# Altium integrated library AMP Memory Module SIMM II.IntLib: 10 symbols
Pins are listed as number, name and electrical type; pins without a type are passive.

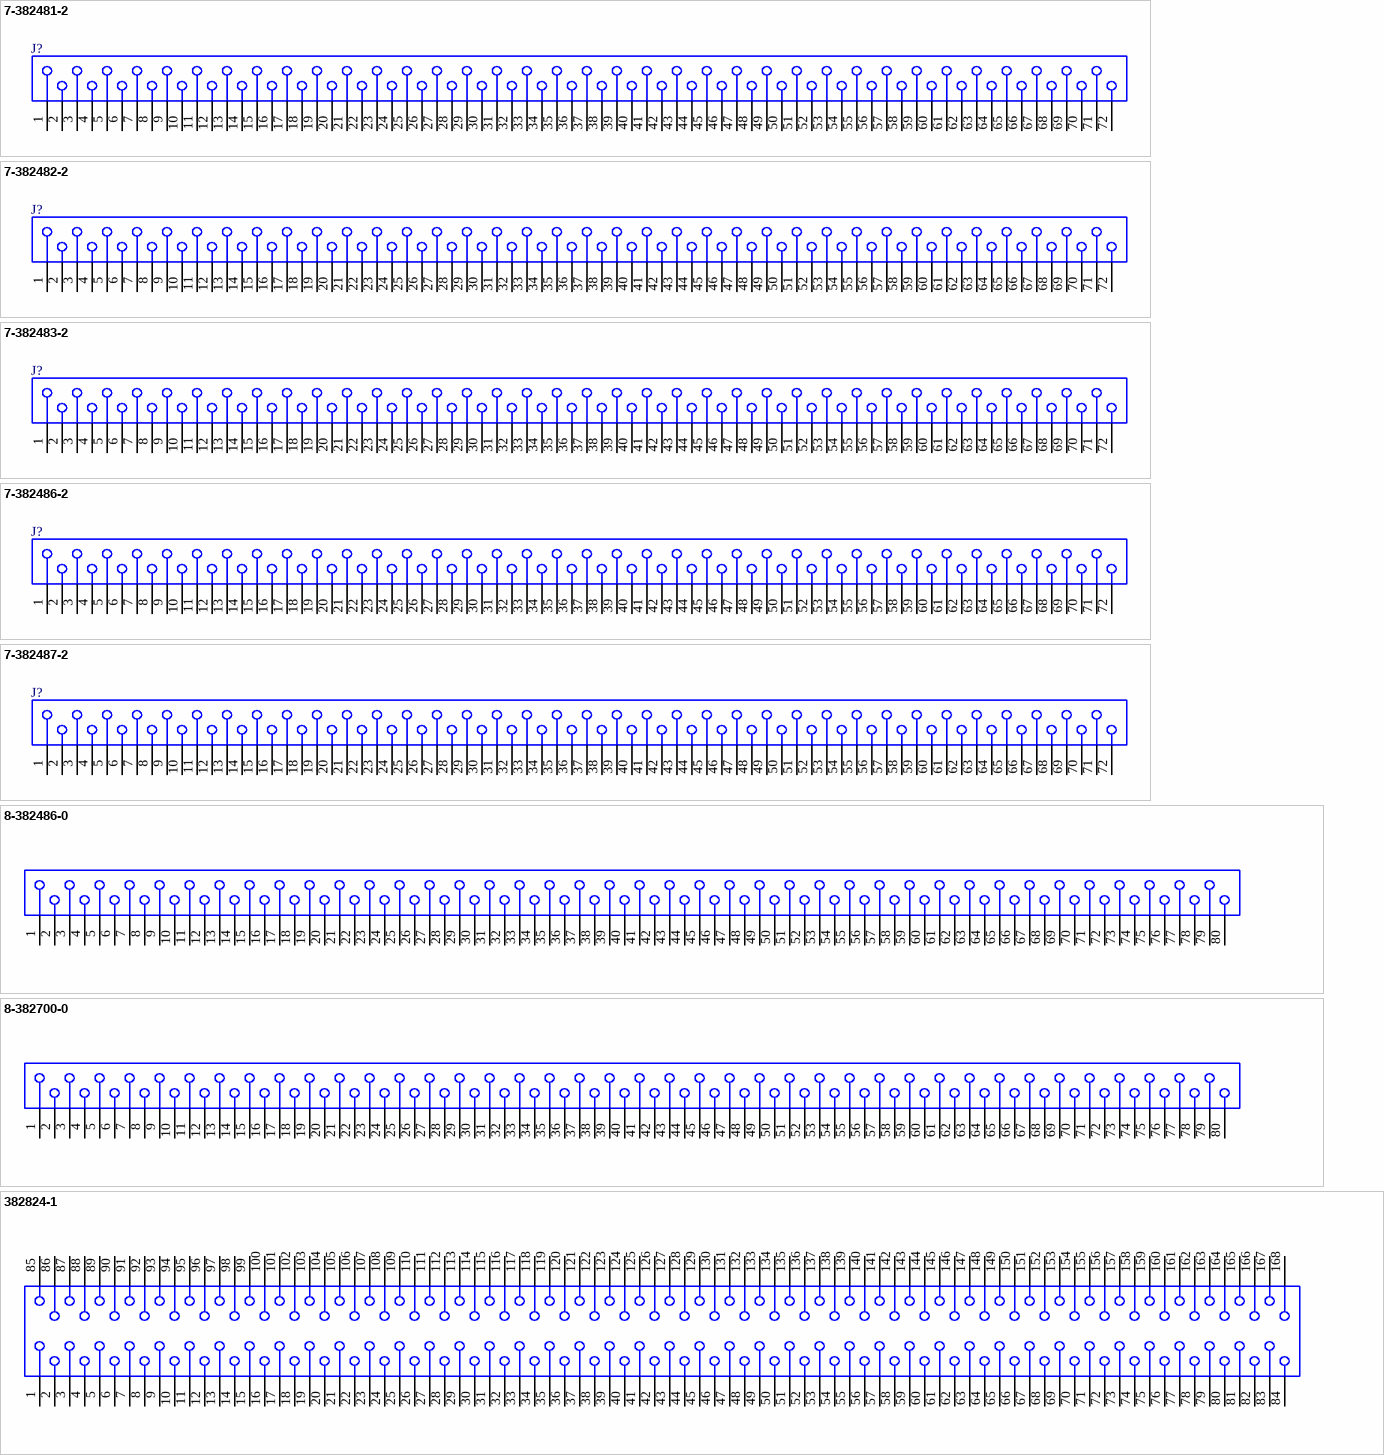
[diagram p0: symbols 7-382481-2 to 382824-1]

## 7-382481-2
designator J?
SIMM II, Right Angle, 1.27 [.050] @22 Assembly, 3.18 [.125] Height; Positions: 72; Rows: Single; InsertionStyle: Cam-In; EjectorLocation: None; PCB_Layout: Complies with manufacturer's recommendation.; DrillSize: Corresponds to nominal value.; Published: 15-Jun-2001; LatestRevisionDate: 17-Jul-2002; LatestRevisionNote: Re-released for DXP Platform.; DatasheetDocument: 25-Jul-2000; PackageDocument: 25-Jul-2000; PackageReference: 7-382481-2; Publisher: Altium Limited; Orientation: Right Angle; ComponentLink1Description: Manufacturer Link; ComponentLink1URL: http://www.tycoelectronics.com/; ComponentLink2Description: Packaging Specification; ComponentLink2URL: http://ecommas.tycoelectronics.com/commerce/DocumentDelivery/DDEController?Action=showdoc&DocId=Customer+Drawing%7F382481%7FG%7Fpdf%7FEnglish%7FENG_CD_382481_G.pdf
footprint 7-382481-2 (Connector; SIMM II; 72 Position; Right Angle)
signal-integrity model Memory Module
pins: 1, 2, 3, 4, 5, 6, 7, 8, 9, 10, 11, 12, 13, 14, 15, 16, 17, 18, 19, 20, 21, 22, 23, 24, 25, 26, 27, 28, 29, 30, 31, 32, 33, 34, 35, 36, 37, 38, 39, 40, 41, 42, 43, 44, 45, 46, 47, 48, 49, 50, 51, 52, 53, 54, 55, 56, 57, 58, 59, 60, 61, 62, 63, 64, 65, 66, 67, 68, 69, 70, 71, 72

## 7-382482-2
designator J?
SIMM II, Right Angle, 1.27 [.050] Q Assembly 4.064 [.160] Height; Positions: 72; Rows: Single; InsertionStyle: Cam-In; EjectorLocation: None; PCB_Layout: Complies with manufacturer's recommendation.; DrillSize: Corresponds to nominal value.; Published: 15-Jun-2001; LatestRevisionDate: 17-Jul-2002; LatestRevisionNote: Re-released for DXP Platform.; DatasheetDocument: 18-Jul-2000; PackageDocument: 18-Jul-2000; PackageReference: 7-382482-2; Publisher: Altium Limited; Orientation: Right Angle; ComponentLink1Description: Manufacturer Link; ComponentLink1URL: http://www.tycoelectronics.com/; ComponentLink2Description: Packaging Specification; ComponentLink2URL: http://ecommas.tycoelectronics.com/commerce/DocumentDelivery/DDEController?Action=showdoc&DocId=Customer+Drawing%7F382482%7FH%7Fpdf%7FEnglish%7FENG_CD_382482_H.pdf; ComponentLink3Description: Iges Model; ComponentLink3URL: http://catalog.tycoelectronics.com/TE/docs/cadgeo/0/79/31970.tar.gz
footprint 7-382482-2 (Connector; SIMM II; 72 Position; Right Angle)
signal-integrity model Memory Module
pins: 1, 2, 3, 4, 5, 6, 7, 8, 9, 10, 11, 12, 13, 14, 15, 16, 17, 18, 19, 20, 21, 22, 23, 24, 25, 26, 27, 28, 29, 30, 31, 32, 33, 34, 35, 36, 37, 38, 39, 40, 41, 42, 43, 44, 45, 46, 47, 48, 49, 50, 51, 52, 53, 54, 55, 56, 57, 58, 59, 60, 61, 62, 63, 64, 65, 66, 67, 68, 69, 70, 71, 72

## 7-382483-2
designator J?
SIMM II, Right Angle, 1.27 [.050] Q Assembly 4.064 [.160] Height; Positions: 72; Rows: Single; InsertionStyle: Cam-In; EjectorLocation: None; PCB_Layout: Complies with manufacturer's recommendation.; DrillSize: Corresponds to nominal value.; Published: 15-Jun-2001; LatestRevisionDate: 17-Jul-2002; LatestRevisionNote: Re-released for DXP Platform.; DatasheetDocument: 18-Jul-2000; PackageDocument: 18-Jul-2000; PackageReference: 7-382483-2; Publisher: Altium Limited; Orientation: Right Angle; ComponentLink1Description: Manufacturer Link; ComponentLink1URL: http://www.tycoelectronics.com/; ComponentLink2Description: Packaging Specification; ComponentLink2URL: http://ecommas.tycoelectronics.com/commerce/DocumentDelivery/DDEController?Action=showdoc&DocId=Customer+Drawing%7F382483%7FF%7Fpdf%7FEnglish%7FENG_CD_382483_F.pdf
footprint 7-382483-2 (Connector; SIMM II; 72 Position; Right Angle)
signal-integrity model Memory Module
pins: 1, 2, 3, 4, 5, 6, 7, 8, 9, 10, 11, 12, 13, 14, 15, 16, 17, 18, 19, 20, 21, 22, 23, 24, 25, 26, 27, 28, 29, 30, 31, 32, 33, 34, 35, 36, 37, 38, 39, 40, 41, 42, 43, 44, 45, 46, 47, 48, 49, 50, 51, 52, 53, 54, 55, 56, 57, 58, 59, 60, 61, 62, 63, 64, 65, 66, 67, 68, 69, 70, 71, 72

## 7-382486-2
designator J?
SIMM II, Right Angle, 1.27 [.050] Q Assembly 6.350 [.250] Height; Positions: 72; Rows: Single; InsertionStyle: Cam-In; EjectorLocation: None; PCB_Layout: Complies with manufacturer's recommendation.; DrillSize: Corresponds to nominal value.; Published: 15-Jun-2001; LatestRevisionDate: 17-Jul-2002; LatestRevisionNote: Re-released for DXP Platform.; DatasheetDocument: 18-Jul-2000; PackageDocument: 18-Jul-2000; PackageReference: 7-382486-2; Publisher: Altium Limited; Orientation: Right Angle; ComponentLink1Description: Manufacturer Link; ComponentLink1URL: http://www.tycoelectronics.com/; ComponentLink2Description: Packaging Specification; ComponentLink2URL: http://ecommas.tycoelectronics.com/commerce/DocumentDelivery/DDEController?Action=showdoc&DocId=Customer+Drawing%7F382486%7FJ%7Fpdf%7FEnglish%7FENG_CD_382486_J.pdf; ComponentLink3Description: Iges Model; ComponentLink3URL: http://catalog.tycoelectronics.com/TE/docs/cadgeo/8/64/30468.tar.gz
footprint 7-382486-2 (Connector; SIMM II; 72 Position; Right Angle)
signal-integrity model Memory Module
pins: 1, 2, 3, 4, 5, 6, 7, 8, 9, 10, 11, 12, 13, 14, 15, 16, 17, 18, 19, 20, 21, 22, 23, 24, 25, 26, 27, 28, 29, 30, 31, 32, 33, 34, 35, 36, 37, 38, 39, 40, 41, 42, 43, 44, 45, 46, 47, 48, 49, 50, 51, 52, 53, 54, 55, 56, 57, 58, 59, 60, 61, 62, 63, 64, 65, 66, 67, 68, 69, 70, 71, 72

## 7-382487-2
designator J?
SIMM II, Right Angle, 1.27 [.050] Cl Assembly 6.350 [.250] Height; Positions: 72; Rows: Single; InsertionStyle: Cam-In; EjectorLocation: None; PCB_Layout: Complies with manufacturer's recommendation.; DrillSize: Corresponds to nominal value.; Published: 15-Jun-2001; LatestRevisionDate: 17-Jul-2002; LatestRevisionNote: Re-released for DXP Platform.; DatasheetDocument: 18-Jul-2000; PackageDocument: 18-Jul-2000; PackageReference: 7-382487-2; Publisher: Altium Limited; Orientation: Right Angle; ComponentLink1Description: Manufacturer Link; ComponentLink1URL: http://www.tycoelectronics.com/; ComponentLink2Description: Packaging Specification; ComponentLink2URL: http://ecommas.tycoelectronics.com/commerce/DocumentDelivery/DDEController?Action=showdoc&DocId=Customer+Drawing%7F382487%7FL%7Fpdf%7FEnglish%7FENG_CD_382487_L.pdf; ComponentLink3Description: URL Link1; ComponentLink3URL: http://catalog.tycoelectronics.com/TE/docs/cadgeo/2/00/32002.tar.gz
footprint 7-382487-2 (Connector; SIMM II; 72 Position; Right Angle)
signal-integrity model Memory Module
pins: 1, 2, 3, 4, 5, 6, 7, 8, 9, 10, 11, 12, 13, 14, 15, 16, 17, 18, 19, 20, 21, 22, 23, 24, 25, 26, 27, 28, 29, 30, 31, 32, 33, 34, 35, 36, 37, 38, 39, 40, 41, 42, 43, 44, 45, 46, 47, 48, 49, 50, 51, 52, 53, 54, 55, 56, 57, 58, 59, 60, 61, 62, 63, 64, 65, 66, 67, 68, 69, 70, 71, 72

## 8-382486-0
designator J?
SIMM II, Right Angle, 1.27 [.050] Q Assembly 6.350 [.250] Height; Positions: 80; Rows: Single; InsertionStyle: Cam-In; EjectorLocation: None; PCB_Layout: Complies with manufacturer's recommendation.; DrillSize: Corresponds to nominal value.; Published: 15-Jun-2001; LatestRevisionDate: 17-Jul-2002; LatestRevisionNote: Re-released for DXP Platform.; DatasheetDocument: 18-Jul-2000; PackageDocument: 18-Jul-2000; PackageReference: 8-382486-0; Publisher: Altium Limited; Orientation: Right Angle; ComponentLink1Description: Manufacturer Link; ComponentLink1URL: http://www.tycoelectronics.com/; ComponentLink2Description: Packaging Specification; ComponentLink2URL: http://ecommas.tycoelectronics.com/commerce/DocumentDelivery/DDEController?Action=showdoc&DocId=Customer+Drawing%7F382486%7FJ%7Fpdf%7FEnglish%7FENG_CD_382486_J.pdf; ComponentLink3Description: Iges Model; ComponentLink3URL: http://catalog.tycoelectronics.com/TE/docs/cadgeo/8/64/30468.tar.gz
footprint 8-382486-0 (Connector; SIMM II; 80 Position; Right Angle)
signal-integrity model Memory Module
pins: 1 p1, 2 p2, 3 p3, 4 p4, 5 p5, 6 p6, 7 p7, 8 p8, 9 p9, 10 p10, 11 p11, 12 p12, 13 p13, 14 p14, 15 p15, 16 p16, 17 p17, 18 p18, 19 p19, 20 p20, 21 p21, 22 p22, 23 p23, 24 p24, 25 p25, 26 p26, 27 p27, 28 p28, 29 p29, 30 p30, 31 p31, 32 p32, 33 p33, 34 p34, 35 p35, 36 p36, 37 p37, 38 p38, 39 p39, 40 p40, 41 p41, 42 p42, 43 p43, 44 p44, 45 p45, 46 p46, 47 p47, 48 p48, 49 p49, 50 p50, 51 p51, 52 p52, 53 p53, 54 p54, 55 p55, 56 p56, 57 p57, 58 p58, 59 p59, 60 p60, 61 p61, 62 p62, 63 p63, 64 p64, 65 p65, 66 p66, 67 p67, 68 p68, 69 p69, 70 p70, 71 p71, 72 p72, 73 p73, 74 p74, 75 p75, 76 p76, 77 p77, 78 p78, 79 p79, 80 p80

## 8-382700-0
designator J?
SIMM II, Vertical, 1.27 [.050] @22 Gold, [.120] St Left Polar; Positions: 80; Rows: Single; InsertionStyle: Cam-In; EjectorLocation: None; PCB_Layout: Complies with manufacturer's recommendation.; DrillSize: Corresponds to nominal value.; ComponentAvailability: Obsolete; Published: 15-Jun-2001; LatestRevisionDate: 17-Jul-2002; LatestRevisionNote: Re-released for DXP Platform.; DatasheetDocument: 6-Nov-1997; PackageDocument: 06-Nov-1997; PackageReference: 8-382700-0; Publisher: Altium Limited; Orientation: Vertical; ComponentLink1Description: Manufacturer Link; ComponentLink1URL: http://www.tycoelectronics.com/
footprint 8-382700-0 (Connector; SIMM II; 80 Position; Vertical)
signal-integrity model Memory Module
pins: 1 p1, 2 p2, 3 p3, 4 p4, 5 p5, 6 p6, 7 p7, 8 p8, 9 p9, 10 p10, 11 p11, 12 p12, 13 p13, 14 p14, 15 p15, 16 p16, 17 p17, 18 p18, 19 p19, 20 p20, 21 p21, 22 p22, 23 p23, 24 p24, 25 p25, 26 p26, 27 p27, 28 p28, 29 p29, 30 p30, 31 p31, 32 p32, 33 p33, 34 p34, 35 p35, 36 p36, 37 p37, 38 p38, 39 p39, 40 p40, 41 p41, 42 p42, 43 p43, 44 p44, 45 p45, 46 p46, 47 p47, 48 p48, 49 p49, 50 p50, 51 p51, 52 p52, 53 p53, 54 p54, 55 p55, 56 p56, 57 p57, 58 p58, 59 p59, 60 p60, 61 p61, 62 p62, 63 p63, 64 p64, 65 p65, 66 p66, 67 p67, 68 p68, 69 p69, 70 p70, 71 p71, 72 p72, 73 p73, 74 p74, 75 p75, 76 p76, 77 p77, 78 p78, 79 p79, 80 p80

## 382824-1
designator J?
SIMM II, 8-Byte, 168 Position, Single Row, Rotary Extractor Position Lock,1.27 [.050] @22; Positions: 168; InsertionStyle: Direct Insert; EjectorLocation: Both Ends; PCB_Layout: Complies with manufacturer's recommendation.; DrillSize: Corresponds to nominal value.; ComponentAvailability: Obsolete; Published: 15-Jun-2001; LatestRevisionDate: 17-Jul-2002; LatestRevisionNote: Re-released for DXP Platform.; DatasheetDocument: 16-Jun-1997; PackageDocument: 16-Jun-1997; PackageReference: 382824-1; Publisher: Altium Limited; Orientation: Vertical; Rows: Single; ComponentLink1Description: Manufacturer Link; ComponentLink1URL: http://www.tycoelectronics.com/
footprint 382824-1 (Connector; SIMM II; 168 Position; Vertical)
signal-integrity model Memory Module
pins: 1, 2, 3, 4, 5, 6, 7, 8, 9, 10, 11, 12, 13, 14, 15, 16, 17, 18, 19, 20, 21, 22, 23, 24, 25, 26, 27, 28, 29, 30, 31, 32, 33, 34, 35, 36, 37, 38, 39, 40, 41, 42, 43, 44, 45, 46, 47, 48, 49, 50, 51, 52, 53, 54, 55, 56, 57, 58, 59, 60, 61, 62, 63, 64, 65, 66, 67, 68, 69, 70, 71, 72, 73, 74, 75, 76, 77, 78, 79, 80, 81, 82, 83, 84, 85, 86, 87, 88, 89, 90, 91, 92, 93, 94, 95, 96, 97, 98, 99, 100, 101, 102, 103, 104, 105, 106, 107, 108, 109, 110, 111, 112, 113, 114, 115, 116, 117, 118, 119, 120, 121, 122, 123, 124, 125, 126, 127, 128, 129, 130, 131, 132, 133, 134, 135, 136, 137, 138, 139, 140, 141, 142, 143, 144, 145, 146, 147, 148, 149, 150, 151, 152, 153, 154, 155, 156, 157, 158, 159, 160, 161, 162, 163, 164, 165, 166, 167, 168

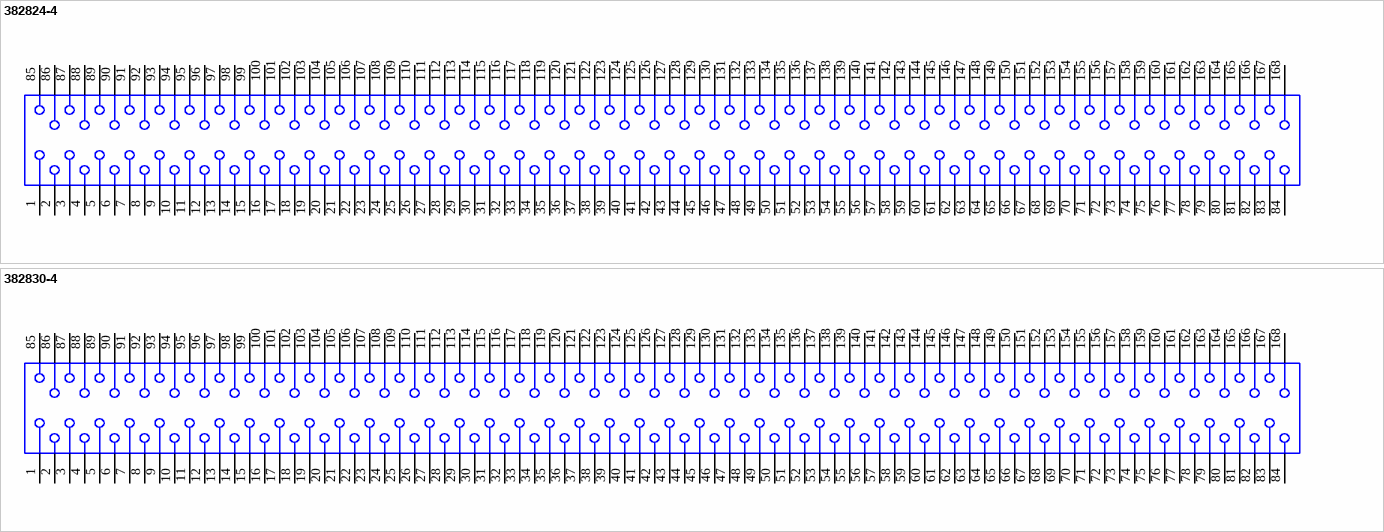
[diagram p1: symbols 382824-4 to 382830-4]

## 382824-4
designator J?
SIMM II, 8-Byte, 168 Position, Single Row, Rotary Extractor Position Lock,1.27 [.050] @22; Positions: 168; InsertionStyle: Direct Insert; EjectorLocation: Both Ends; PCB_Layout: Complies with manufacturer's recommendation.; DrillSize: Corresponds to nominal value.; ComponentAvailability: Obsolete; Published: 15-Jun-2001; LatestRevisionDate: 17-Jul-2002; LatestRevisionNote: Re-released for DXP Platform.; DatasheetDocument: 16-Jun-1997; PackageDocument: 16-Jun-1997; PackageReference: 382824-4; Publisher: Altium Limited; Orientation: Vertical; Rows: Single; ComponentLink1Description: Manufacturer Link; ComponentLink1URL: http://www.tycoelectronics.com/
footprint 382824-4 (Connector; SIMM II; 168 Position; Vertical)
signal-integrity model Memory Module
pins: 1, 2, 3, 4, 5, 6, 7, 8, 9, 10, 11, 12, 13, 14, 15, 16, 17, 18, 19, 20, 21, 22, 23, 24, 25, 26, 27, 28, 29, 30, 31, 32, 33, 34, 35, 36, 37, 38, 39, 40, 41, 42, 43, 44, 45, 46, 47, 48, 49, 50, 51, 52, 53, 54, 55, 56, 57, 58, 59, 60, 61, 62, 63, 64, 65, 66, 67, 68, 69, 70, 71, 72, 73, 74, 75, 76, 77, 78, 79, 80, 81, 82, 83, 84, 85, 86, 87, 88, 89, 90, 91, 92, 93, 94, 95, 96, 97, 98, 99, 100, 101, 102, 103, 104, 105, 106, 107, 108, 109, 110, 111, 112, 113, 114, 115, 116, 117, 118, 119, 120, 121, 122, 123, 124, 125, 126, 127, 128, 129, 130, 131, 132, 133, 134, 135, 136, 137, 138, 139, 140, 141, 142, 143, 144, 145, 146, 147, 148, 149, 150, 151, 152, 153, 154, 155, 156, 157, 158, 159, 160, 161, 162, 163, 164, 165, 166, 167, 168

## 382830-4
designator J?
SIMM II, 8-Byte, Style 1, Left Side Key Setting, 168 Position, 1.27[.050] @22 (Full Wipe); Positions: 168; Rows: Single; InsertionStyle: Direct Insert; EjectorLocation: Both Ends; PCB_Layout: Complies with manufacturer's recommendation.; DrillSize: Corresponds to nominal value.; ComponentAvailability: Obsolete; Published: 15-Jun-2001; LatestRevisionDate: 17-Jul-2002; LatestRevisionNote: Re-released for DXP Platform.; DatasheetDocument: Jun-1997; PackageDocument: Jun-1997; PackageReference: 382830-4; Publisher: Altium Limited; Orientation: Vertical; ComponentLink1Description: Manufacturer Link; ComponentLink1URL: http://www.tycoelectronics.com/
footprint 382830-4 (Connector; SIMM II; 168 Position; Vertical)
signal-integrity model Memory Module
pins: 1, 2, 3, 4, 5, 6, 7, 8, 9, 10, 11, 12, 13, 14, 15, 16, 17, 18, 19, 20, 21, 22, 23, 24, 25, 26, 27, 28, 29, 30, 31, 32, 33, 34, 35, 36, 37, 38, 39, 40, 41, 42, 43, 44, 45, 46, 47, 48, 49, 50, 51, 52, 53, 54, 55, 56, 57, 58, 59, 60, 61, 62, 63, 64, 65, 66, 67, 68, 69, 70, 71, 72, 73, 74, 75, 76, 77, 78, 79, 80, 81, 82, 83, 84, 85, 86, 87, 88, 89, 90, 91, 92, 93, 94, 95, 96, 97, 98, 99, 100, 101, 102, 103, 104, 105, 106, 107, 108, 109, 110, 111, 112, 113, 114, 115, 116, 117, 118, 119, 120, 121, 122, 123, 124, 125, 126, 127, 128, 129, 130, 131, 132, 133, 134, 135, 136, 137, 138, 139, 140, 141, 142, 143, 144, 145, 146, 147, 148, 149, 150, 151, 152, 153, 154, 155, 156, 157, 158, 159, 160, 161, 162, 163, 164, 165, 166, 167, 168